# Altium footprint library LPC546XX_CoreBoard.PcbLib: 1 footprints
Each footprint in its own frame and in the unit in brackets; x right, y up, seen from the top. Pads: shape width x height; smd on the part's side, far side on the other; paste and mask are expansions set on the pad; w line width, h text height; cw(c..) or ccw(c..) is an arc to the next point about the centre after c.
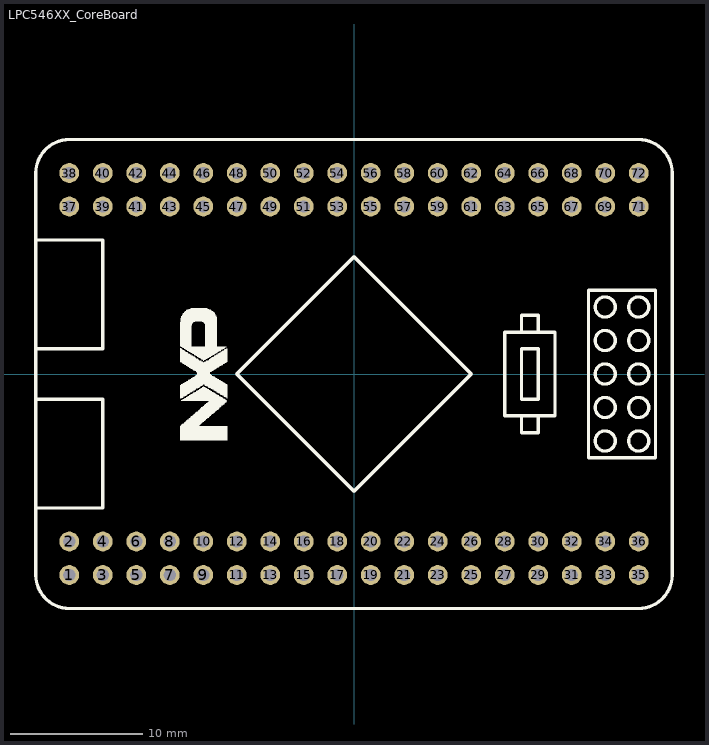
[diagram p0: the footprint, top view; thin cyan lines are the x and y axes]

## LPC546XX_CoreBoard [mm] "逐飞科技LPC核心板整体封装，可直接使用"
pads (72):
  round 1.5 hole 0.9 slot 0.889 at 90 deg: 1(-21.59,-15.24) 2(-21.59,-12.7) 3(-19.05,-15.24) 4(-19.05,-12.7) 5(-16.51,-15.24) 6(-16.51,-12.7) 7(-13.97,-15.24) 8(-13.97,-12.7) 9(-11.43,-15.24) 10(-11.43,-12.7) 11(-8.89,-15.24) 12(-8.89,-12.7) 13(-6.35,-15.24) 14(-6.35,-12.7) 15(-3.81,-15.24) 16(-3.81,-12.7) 17(-1.27,-15.24) 18(-1.27,-12.7) 19(1.27,-15.24) 20(1.27,-12.7) 21(3.81,-15.24) 22(3.81,-12.7) 23(6.35,-15.24) 24(6.35,-12.7) 25(8.89,-15.24) 26(8.89,-12.7) 27(11.43,-15.24) 28(11.43,-12.7) 29(13.97,-15.24) 30(13.97,-12.7) 31(16.51,-15.24) 32(16.51,-12.7) 33(19.05,-15.24) 34(19.05,-12.7) 35(21.59,-15.24) 36(21.59,-12.7) 37(-21.59,12.7) 38(-21.59,15.24) 39(-19.05,12.7) 40(-19.05,15.24) 41(-16.51,12.7) 42(-16.51,15.24) 43(-13.97,12.7) 44(-13.97,15.24) 45(-11.43,12.7) 46(-11.43,15.24) 47(-8.89,12.7) 48(-8.89,15.24) 49(-6.35,12.7) 50(-6.35,15.24) 51(-3.81,12.7) 52(-3.81,15.24) 53(-1.27,12.7) 54(-1.27,15.24) 55(1.27,12.7) 56(1.27,15.24) 57(3.81,12.7) 58(3.81,15.24) 59(6.35,12.7) 60(6.35,15.24) 61(8.89,12.7) 62(8.89,15.24) 63(11.43,12.7) 64(11.43,15.24) 65(13.97,12.7) 66(13.97,15.24) 67(16.51,12.7) 68(16.51,15.24) 69(19.05,12.7) 70(19.05,15.24) 71(21.59,12.7) 72(21.59,15.24)
Top Overlay:
  drawing of 415 lines, arcs and shapes, not listed